# EAGLE library part BISS0001 (library BISS0001)
BISS0001 - PIR motion sensor amplifier
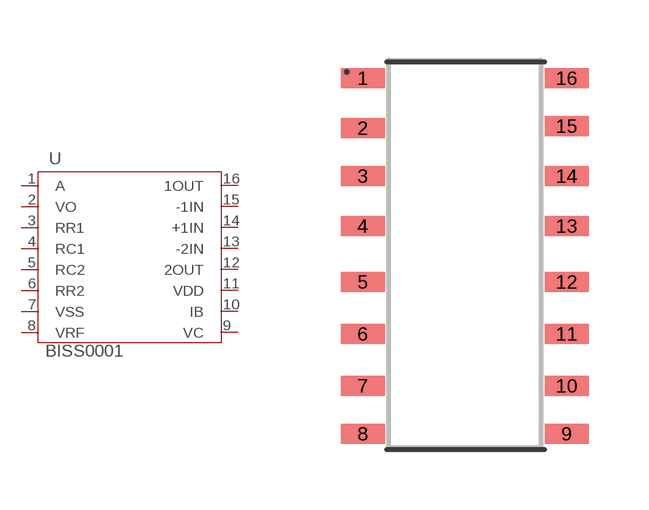
[diagram p0: symbol with the pads of SOP16; footprint SOP16]

Designator prefix U

## BISS0001  [SOP16]
1  A
2  VO
3  RR1
4  RC1
5  RC2
6  RR2
7  VSS
8  VRF
9  VC
10  IB
11  VDD
12  2OUT
13  -2IN
14  +1IN
15  -1IN
16  1OUT

## Footprint SOP16 (pad centres in mm)
smd 1.1 x 0.5: 1 -1.05,0.3; 2 -1.05,-0.95; 3 -1.05,-2.15; 4 -1.05,-3.4; 5 -1.05,-4.8; 6 -1.05,-6.1; 7 -1.05,-7.4; 8 -1.05,-8.6; 9 4.05,-8.6; 10 4.05,-7.4; 11 4.05,-6.1; 12 4.05,-4.8; 13 4.05,-3.4; 14 4.05,-2.15; 15 4.05,-0.9; 16 4.05,0.3